# EAGLE library part BOURNS_CAY16-XXXJ4LF (library Bourns - ChipArray - CAY16-103J4LF)
RES-P-8
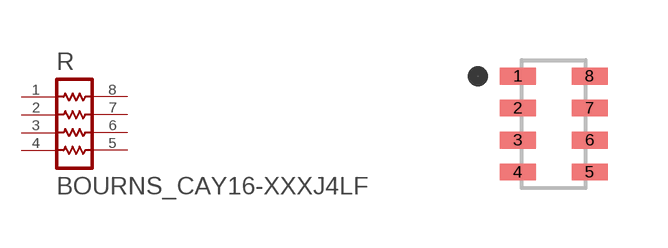
[diagram p0: symbol with the pads of CAY16_J4; footprint CAY16_J4]

Designator prefix R

## BOURNS_CAY16-XXXJ4LFBOURNS_CAY16-103J4LF_0_0 (CASE_CODE_IMPERIAL: 0603; CASE_CODE_METRIC: 1608; CASE_PACKAGE: 0603; CIIVA_IDS: 1150485; COMPONENT_LINK_1_DESCRIPTION: Manufacturer URL; COMPONENT_LINK_1_URL: http://www.bourns.com/; DATASHEET: http://www.bourns.com/docs/Product-Datasheets/CATCAY.pdf; DATASHEET_VERSION: Jan-15; FOOTPRINT_VARIANT_NAME_0: Manufacturer Recommended; HEIGHT: 0.022 inch; IMPORTED: yes; IMPORTED_FROM: vault; IMPORT_TS: 1521861628; LENGTH: 0.063 inch; MAX_OPERATING_TEMPERATURE: 155 degC; MF: Bourns; MIN_OPERATING_TEMPERATURE: -55 degC; MOUNT: Surface Mount; MPN: CAY16-103J4LF; PACKAGE: CAY16-J4; PACKAGE_DESCRIPTION: 8-Pin Surface Mount Device, Body 1.6 x 3.2 mm, Pitch 0.8 mm; PACKAGING: Tape and Reel; PINS: 2; POWER_RATING: 100 mW; PREFIX: R; RADIATION_HARDENING: No; REACH_SVHC: Yes; RELEASE_DATE: 1475030209; RESISTANCE: 220 Ohm; RO_HSCOMPLIANT: true; TOLERANCE: 1%; VAULT_GUID: 0BCDA535-894A-4AD7-B7AF-5CEA5AAFC8D7; VAULT_REVISION: 7CD788C9-8F01-4676-8150-44A75267086F; VOLTAGE_RATING: 75 V; WEIGHT: 7.1E-05 oz; WIDTH: 0.031 inch)  [CAY16_J4]
1  1  pas
2  2  pas
3  3  pas
4  4  pas
5  5  pas
6  6  pas
7  7  pas
8  8  pas

## Footprint CAY16_J4 (pad centres in mm)
RES-P-8 Centro: X = 0.9 mm
smd 0.9 x 0.425: 1 0,0; 2 0,-0.8; 3 0,-1.6; 4 0,-2.4; 5 1.8,-2.4; 6 1.8,-1.6; 7 1.8,-0.8; 8 1.8,0